# Altium schematic symbol library SchematicLibrary.SchLib: 11 symbols
Pins are listed as number, name and electrical type; pins without a type are passive.

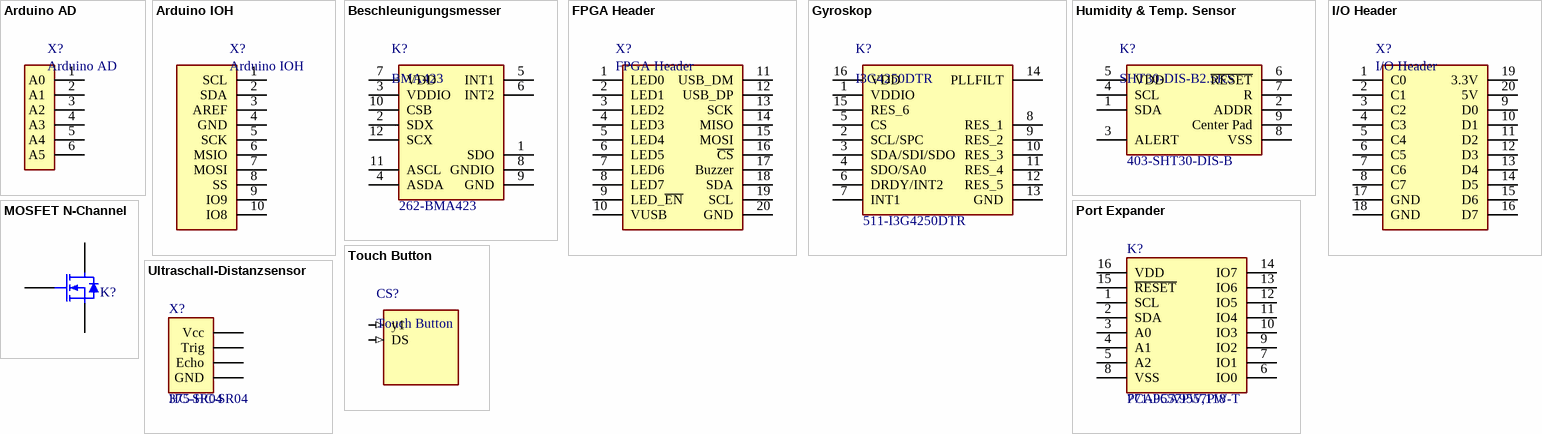
[diagram p0: symbols Arduino AD to Ultraschall-Distanzsensor]

## Arduino AD
designator X?
board to board header; LatestRevisionDate: 02.05.2019; Publisher: ICT Berufsbildungscenter AG
footprint Header THT female 1x6 (header for tht mounting / pitch = 2.54mm)
footprint Header THT female 1x6 RA (right angled header for tht mounting / pitch = 2.54mm)
footprint Header THT female 2x3 (header for tht mounting / pitch = 2.54mm)
footprint Header THT female 2x3 RA (right angled header for tht mounting / pitch = 2.54mm)
footprint Header THT male 1x6 (header for tht mounting / pitch = 2.54mm)
footprint Header THT male 1x6 RA (right angle header for tht mounting / pitch = 2.54mm)
footprint Header THT male 2x3 (header for tht mounting / pitch = 2.54mm)
footprint Header THT male 2x3 RA (right angle header for tht mounting / pitch = 2.54mm)
footprint Header SMD Male 1x6 H (male header for smd mounting / pitch = 2.54mm / hand soldering)
footprint Header SMD Male 1x6 R (male header for smd mounting / pitch = 2.54mm / reflow soldering)
footprint Header SMD Male 2x3 H (male header for smd mounting / pitch = 2.54mm / hand soldering)
footprint Header SMD Male 2x3 R (male header for smd mounting / pitch = 2.54mm / reflow soldering)
footprint Header SMD Male 1x6 RA H (right angled male header for smd mounting / pitch = 2.54mm / hand soldering)
pins: 1 A0, 2 A1, 3 A2, 4 A3, 5 A4, 6 A5

## Arduino IOH
designator X?
board to board header; LatestRevisionDate: 02.05.2019; Publisher: ICT Berufsbildungscenter AG
footprint Header THT female 2x5 (header for tht mounting / pitch = 2.54mm)
footprint Header THT female 2x5 RA (right angled header for tht mounting / pitch = 2.54mm)
footprint Header THT male 1x10 (header for tht mounting / pitch = 2.54mm)
footprint Header THT male 1x10 RA (right angle header for tht mounting / pitch = 2.54mm)
footprint Header THT male 2x5 (header for tht mounting / pitch = 2.54mm)
footprint Header THT male 2x5 RA (right angle header for tht mounting / pitch = 2.54mm)
footprint Header THT female 1x10 (header for tht mounting / pitch = 2.54mm)
footprint Header THT female 1x10 RA (right angled header for tht mounting / pitch = 2.54mm)
footprint Header SMD Male 1x10 H (male header for smd mounting / pitch = 2.54mm / hand soldering)
footprint Header SMD Male 1x10 R (male header for smd mounting / pitch = 2.54mm / reflow soldering)
footprint Header SMD Male 2x5 H (male header for smd mounting / pitch = 2.54mm / hand soldering / hand soldering)
footprint Header SMD Male 2x5 R (male header for smd mounting / pitch = 2.54mm / hand soldering / reflow soldering)
footprint Header SMD Male 1x10 RA H (right angled male header for smd mounting / pitch = 2.54mm / hand soldering)
pins: 1 SCL, 2 SDA, 3 AREF, 4 GND, 5 SCK, 6 MSIO, 7 MOSI, 8 SS, 9 IO9, 10 IO8

## Beschleunigungsmesser
designator K?, comment BMA423  Supplier Part Number 1: 262-BMA423
Beschleunigungsmesser Triaxial low-g 12bit Acceleration Sensor; ComponentLink1Description: New link; ComponentLink1URL: https://www.mouser.ch/ProductDetail/Bosch-Sensortec/BMA423/?qs=HXFqYaX1Q2xC%252BSgeGoX3mg%3D%3D; Supplier 1: Mouser
footprint BMA423
pins: 1 SDO, 2 SDX, 3 VDDIO, 4 ASDA, 5 INT1, 6 INT2, 7 VDD, 8 GNDIO, 9 GND, 10 CSB, 11 ASCL, 12 SCX

## FPGA Header
designator X?
board to board header; LatestRevisionDate: 02.05.2019; Publisher: ICT Berufsbildungscenter AG
footprint Header THT female 2x10 (header for tht mounting / pitch = 2.54mm)
footprint Header THT female 2x10 RA (right angled header for tht mounting / pitch = 2.54mm)
footprint Header THT male 2x10 (header for tht mounting / pitch = 2.54mm)
footprint Header THT male 2x10 RA (right angle header for tht mounting / pitch = 2.54mm)
footprint Header SMD Male 2x10 H (male header for smd mounting / pitch = 2.54mm / hand soldering)
footprint Header SMD Male 2x10 R (male header for smd mounting / pitch = 2.54mm / reflow soldering)
pins: 1 LED0, 2 LED1, 3 LED2, 4 LED3, 5 LED4, 6 LED5, 7 LED6, 8 LED7, 9 LED_~{EN}, 10 VUSB, 11 USB_DM, 12 USB_DP, 13 SCK, 14 MISO, 15 MOSI, 16 ~{CS}, 17 Buzzer, 18 SDA, 19 SCL, 20 GND

## Gyroskop
designator K?, comment I3G4250DTR  Supplier Part Number 1: 511-I3G4250DTR
Gyroskope AUTO & INDUSTRIAL SENSORS; ComponentLink1Description: New link; ComponentLink1URL: https://www.mouser.ch/ProductDetail/STMicroelectronics/I3G4250DTR/?qs=%2Fha2pyFadugIiSRyLsysBNkcELyrugzinfnj1%2FprSe9QiJpXEwggKQ%3D%3D; Supplier 1: Mouser
footprint LGA-16L(4X4X1.1MM)
pins: 1 VDDIO, 2 SCL/SPC, 3 SDA/SDI/SDO, 4 SDO/SA0, 5 CS, 6 DRDY/INT2, 7 INT1, 8 RES_1, 9 RES_2, 10 RES_3, 11 RES_4, 12 RES_5, 13 GND, 14 PLLFILT, 15 RES_6, 16 VDD

## Humidity & Temp. Sensor
designator K?, comment SHT30-DIS-B2.5KS  Supplier Part Number 1: 403-SHT30-DIS-B
Feuchtigkeitssensoren für Plattenmontage RH Accuracy +/- 3% Digital, DFN Type; ComponentLink1Description: New link; ComponentLink1URL: https://www.mouser.ch/ProductDetail/Sensirion/SHT30-DIS-B25kS?qs=y6ZabgHbY%252BwVK7712NFj8g==; Supplier 1: Mouser
footprint SHT30DISB25KS
pins: 1 SDA, 2 ADDR, 3 ALERT, 4 SCL, 5 VDD, 6 ~{RESET}, 7 R, 8 VSS, 9 Center Pad

## I/O Header
designator X?
board to board header; LatestRevisionDate: 02.05.2019; Publisher: ICT Berufsbildungscenter AG
footprint Header THT female 2x10 (header for tht mounting / pitch = 2.54mm)
footprint Header THT female 2x10 RA (right angled header for tht mounting / pitch = 2.54mm)
footprint Header THT male 2x10 (header for tht mounting / pitch = 2.54mm)
footprint Header THT male 2x10 RA (right angle header for tht mounting / pitch = 2.54mm)
footprint Header SMD Male 2x10 H (male header for smd mounting / pitch = 2.54mm / hand soldering)
footprint Header SMD Male 2x10 R (male header for smd mounting / pitch = 2.54mm / reflow soldering)
pins: 1 C0, 2 C1, 3 C2, 4 C3, 5 C4, 6 C5, 7 C6, 8 C7, 9 D0, 10 D1, 11 D2, 12 D3, 13 D4, 14 D5, 15 D6, 16 D7, 17 GND, 18 GND, 19 3.3V, 20 5V

## MOSFET N-Channel
designator K?  (value not drawn)
footprint SOT96P237X111-3N
pins: 1 G, 2 S, 3 D

## Port Expander
designator K?, comment PCA9557PW,118  Supplier Part Number 1: 771-PCA9557PW-T
/ Schnittstelle - I/O-Erweiterer OCT SMBUS/I2C INTRFC /; ComponentLink1Description: New link; ComponentLink1URL: https://www.mouser.ch/ProductDetail/NXP-Semiconductors/PCA9557PW118?qs=LOCUfHb8d9vFRJDeZaj93A%3D%3D; Supplier 1: Mouser
footprint SOP65P640X110-16N
pins: 1 SCL, 2 SDA, 3 A0, 4 A1, 5 A2, 6 IO0, 7 IO1, 8 VSS, 9 IO2, 10 IO3, 11 IO4, 12 IO5, 13 IO6, 14 IO7, 15 ~{RESET}, 16 VDD

## Touch Button
designator CS?
Rechteckige Kupferfläche
footprint Button Self Rectangle
pins: DS (in), y1 (in)

## Ultraschall-Distanzsensor
designator X?, comment HC-SR04  Supplier Part Number 1: 375-HC-SR04
Buchsenanschluss für den Sensor; ComponentLink1Description: New link; ComponentLink1URL: https://www.mouser.ch/ProductDetail/OSEPP-Electronics/HC-SR04/?qs=%2Fha2pyFaduh4%252Bb8VhcwOUSciFhLRlhNOu8G0etmXCiZdsBFkrSGdCA%3D%3D; Supplier 1: Mouser
footprint HC-SR04
pins: 1 Vcc, 2 Trig, 3 Echo, 4 GND